# EAGLE library part STM8S105S (library st-microelectronics)
Access line, 16 MHz STM8S 8-bit MCU up to 32 Kbytes Flash, integrated EEPROM,10-bit ADC, timers, UART, SPI, I²C Source: Data sheet <http://www.st.com/stonline/products/literature/ds/14771/stm8s105c4.pdf>
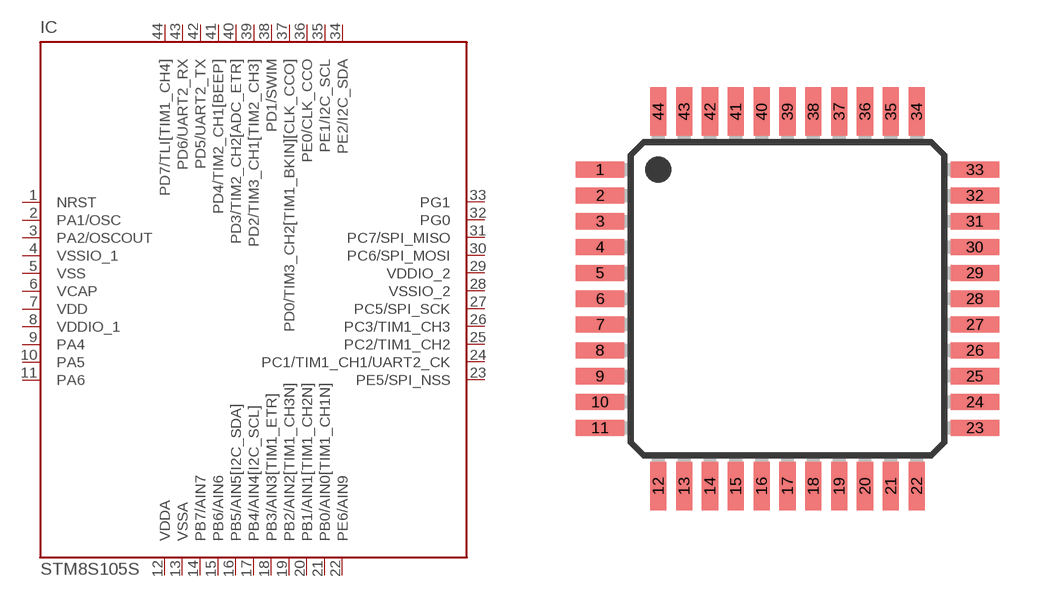
[diagram p27: symbol with the pads of LQFP44-10X10; footprint LQFP44-10X10]

Designator prefix IC

## STM8S105S4 (MPN: STM8S105S4T6C; OC_FARNELL: 1706227; OC_NEWARK: 09R6037), STM8S105S6 (MPN: STM8S105S6T6C; OC_FARNELL: 1706228; OC_NEWARK: 09R6038)  [LQFP44-10X10]
1  NRST
2  PA1/OSC
3  PA2/OSCOUT
4  VSSIO_1  pwr
5  VSS  pwr
6  VCAP  pwr
7  VDD  pwr
8  VDDIO_1  pwr
9  PA4
10  PA5
11  PA6
12  VDDA  pwr
13  VSSA  pwr
14  PB7/AIN7
15  PB6/AIN6
16  PB5/AIN5[I2C_SDA]
17  PB4/AIN4[I2C_SCL]
18  PB3/AIN3[TIM1_ETR]
19  PB2/AIN2[TIM1_CH3N]
20  PB1/AIN1[TIM1_CH2N]
21  PB0/AIN0[TIM1_CH1N]
22  PE6/AIN9
23  PE5/SPI_NSS
24  PC1/TIM1_CH1/UART2_CK
25  PC2/TIM1_CH2
26  PC3/TIM1_CH3
27  PC5/SPI_SCK
28  VSSIO_2  pwr
29  VDDIO_2  pwr
30  PC6/SPI_MOSI
31  PC7/SPI_MISO
32  PG0
33  PG1
34  PE2/I2C_SDA
35  PE1/I2C_SCL
36  PE0/CLK_CCO
37  PD0/TIM3_CH2[TIM1_BKIN][CLK_CCO]
38  PD1/SWIM
39  PD2/TIM3_CH1[TIM2_CH3]
40  PD3/TIM2_CH2[ADC_ETR]
41  PD4/TIM2_CH1[BEEP]
42  PD5/UART2_TX
43  PD6/UART2_RX
44  PD7/TLI[TIM1_CH4]

## Footprint LQFP44-10X10 (pad centres in mm)
44-pin low profile quad flat package 10 x 10 mm Source: Data sheet <http://www.st.com/stonline/products/literature/ds/14771/stm8s105c4.pdf>
smd 1.5 x 0.5: 1 -5.8,4; 2 -5.8,3.2; 3 -5.8,2.4; 4 -5.8,1.6; 5 -5.8,0.8; 6 -5.8,0; 7 -5.8,-0.8; 8 -5.8,-1.6; 9 -5.8,-2.4; 10 -5.8,-3.2; 11 -5.8,-4; 23 5.8,-4; 24 5.8,-3.2; 25 5.8,-2.4; 26 5.8,-1.6; 27 5.8,-0.8; 28 5.8,0; 29 5.8,0.8; 30 5.8,1.6; 31 5.8,2.4; 32 5.8,3.2; 33 5.8,4
smd 0.5 x 1.5: 12 -4,-5.8; 13 -3.2,-5.8; 14 -2.4,-5.8; 15 -1.6,-5.8; 16 -0.8,-5.8; 17 0,-5.8; 18 0.8,-5.8; 19 1.6,-5.8; 20 2.4,-5.8; 21 3.2,-5.8; 22 4,-5.8; 34 4,5.8; 35 3.2,5.8; 36 2.4,5.8; 37 1.6,5.8; 38 0.8,5.8; 39 0,5.8; 40 -0.8,5.8; 41 -1.6,5.8; 42 -2.4,5.8; 43 -3.2,5.8; 44 -4,5.8